# Altium footprint library TRAN FET.PcbLib: 3 footprints
Each footprint in its own frame and in the unit in brackets; x right, y up, seen from the top. Pads: shape width x height; smd on the part's side, far side on the other; paste and mask are expansions set on the pad; w line width, h text height; cw(c..) or ccw(c..) is an arc to the next point about the centre after c.
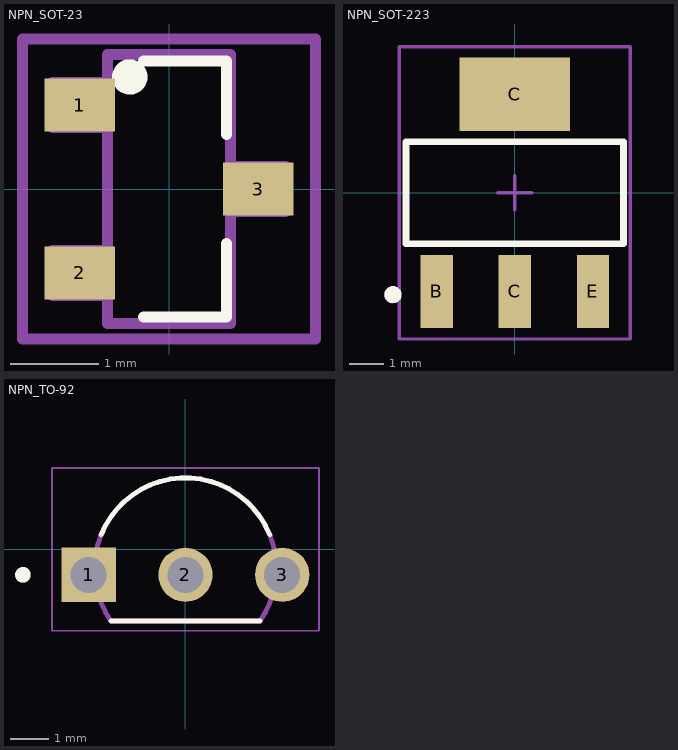
[diagram p0: the footprints below, top view; thin cyan lines are the x and y axes]

## NPN_SOT-23 [mm]
height 1.05
pads (3):
  rect 0.8x0.6 smd: 1(-1.01,0.95) 2(-1.01,-0.95) 3(1.01,0)
Top Overlay:
  circle w0.2: c-0.445,1.27 r0.1
  lines w0.127: -0.29,-1.45 0.65,-1.45 0.65,-0.62 ; -0.29,1.45 0.65,1.45 0.65,0.62
Mechanical 15:
  circle w0.127: c-0.445,1.27 r0.127
  lines w0.127: -1.321,-1.206 -1.321,-0.699 -0.699,-0.699 -0.699,-1.206 -1.321,-1.206 ; -1.321,0.699 -1.321,1.206 -0.699,1.206 -0.699,0.699 -1.321,0.699 ; -0.699,-1.524 -0.699,1.524 0.699,1.524 0.699,-1.524 -0.699,-1.524 ; 0.699,-0.254 0.699,0.254 1.321,0.254 1.321,-0.254 0.699,-0.254
Mechanical 29:
  circle w0.127: c-1.016,0.965 r0.127
  lines w0.127: -1.66,-1.7 -1.66,1.7 1.66,1.7 1.66,-1.7 -1.66,-1.7
  text "'.Designator'" at 1.265,0.788 h1.6
3D body "SS8050-G.STEP": height 1.16, standoff 0.01, extent -1.2,-1.448 1.2,1.448

## NPN_SOT-223 [mm]
height 1.1
pads (4):
  rect 0.95x2.15 smd: B(-2.3,-2.9) C(0,-2.9) E(2.3,-2.9)
  rect 3.25x2.15 smd: C(0,2.9)
Top Overlay:
  circle w0.4: c-3.581,-2.997 r0.051
  lines w0.2: -3.2,-1.5 3.2,-1.5 3.2,1.5 -3.2,1.5 -3.2,-1.5
Mechanical 15:
  lines w0.1: -0.5,0 0.5,0 ; 0,-0.5 0,0.5 ; -3.4,-4.3 -3.4,4.3 3.4,4.3 3.4,-4.3 -3.4,-4.3
Mechanical 29:
  circle w0.1: c-3.6,-3 r0.2
  lines w0.1: -3.2,-1.5 -3.2,1.5 3.2,1.5 3.2,-1.5 -3.2,-1.5
  text "'.Designator'" at -0.669,-0.262 h1.5
3D body "User Library-sot-223.step": height 1.69, standoff 0.01, extent -3.25,-3.5 3.25,3.432

## NPN_TO-92 [mm]
height 7.7
pads (3):
  rect 1.4x1.4 / inner round 1.4 / far side rect 1.4x1.4 hole 0.93: 1(-2.5,-0.655)
  round 1.4 hole 0.93: 2(0,-0.655) 3(2.5,-0.655)
Top Overlay:
  circle w0.2: c-4.2,-0.655 r0.1
  lines w0.127: -2.179,0.38 cw(c0,-0.5) 2.179,0.38 ; -1.924,-1.85 1.924,-1.85 -1.924,-1.85
Mechanical 15:
  lines w0.127: -1.925,-1.848 cw(c0,-0.5) 1.925,-1.848 ; -1.924,-1.85 1.924,-1.85
Mechanical 29:
  circle w0.2: c-4.2,-0.655 r0.1
  lines w0.05: -3.45,-2.1 -3.45,2.1 3.45,2.1 3.45,-2.1 -3.45,-2.1
  text "'.Designator'" at -2.794,-0.508 h1.52
3D body "step_temp.STEP": height 8.7, standoff -8.5, extent -2.725,-1.85 2.725,1.85